# EAGLE library part ISSI-IS62WV1288 (library Pygmy)
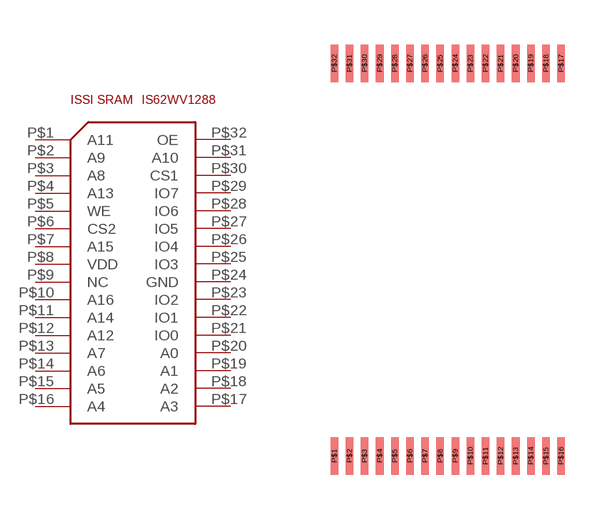
[diagram p6: symbol with the pads of STSOP32; footprint STSOP32]

Designator prefix -

## ISSI-IS62WV1288  [STSOP32]
P$1  A11
P$2  A9
P$3  A8
P$4  A13
P$5  WE
P$6  CS2
P$7  A15
P$8  VDD
P$9  NC
P$10  A16
P$11  A14
P$12  A12
P$13  A7
P$14  A6
P$15  A5
P$16  A4
P$17  A3
P$18  A2
P$19  A1
P$20  A0
P$21  IO0
P$22  IO1
P$23  IO2
P$24  GND
P$25  IO3
P$26  IO4
P$27  IO5
P$28  IO6
P$29  IO7
P$30  CS1
P$31  A10
P$32  OE

## Footprint STSOP32 (pad centres in mm)
smd 0.254 x 1.27: P$1 -4.064,-6.604; P$2 -3.556,-6.604; P$3 -3.048,-6.604; P$4 -2.54,-6.604; P$5 -2.032,-6.604; P$6 -1.524,-6.604; P$7 -1.016,-6.604; P$8 -0.508,-6.604; P$9 0,-6.604; P$10 0.508,-6.604; P$11 1.016,-6.604; P$12 1.524,-6.604; P$13 2.032,-6.604; P$14 2.54,-6.604; P$15 3.048,-6.604; P$16 3.556,-6.604; P$17 3.556,6.604; P$18 3.048,6.604; P$19 2.54,6.604; P$20 2.032,6.604; P$21 1.524,6.604; P$22 1.016,6.604; P$23 0.508,6.604; P$24 0,6.604; P$25 -0.508,6.604; P$26 -1.016,6.604; P$27 -1.524,6.604; P$28 -2.032,6.604; P$29 -2.54,6.604; P$30 -3.048,6.604; P$31 -3.556,6.604; P$32 -4.064,6.604